# Altium schematic symbol library PMIC - Power Distribution Switches.SchLib: 1 symbol
Pins are listed as number, name and electrical type; pins without a type are passive.

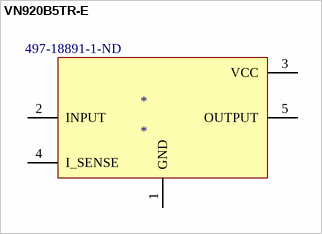
[diagram p0: symbol VN920B5TR-E]

## VN920B5TR-E
designator *  Supplier Part Number 1: 497-18891-1-ND
Supplier 1: Digi-Key
footprint P2PACK-4 LEADS
pins: 1 GND, 2 INPUT, 3 VCC, 4 I_SENSE, 5 OUTPUT